# EAGLE library part MAX7221CWG (library MakBit)
MAX7219/MAX7221 - Serially Interfaced, 8-Digit LED Display Drivers 10MHz Serial Interface Individual LED Segment Control 150µA Low-Power Shutdown (Data Retained) Digital and Analog Brightness Control Drive Common-Cathode LED Display SPI, QSPI, MICROWIRE Serial Interface (MAX7221)
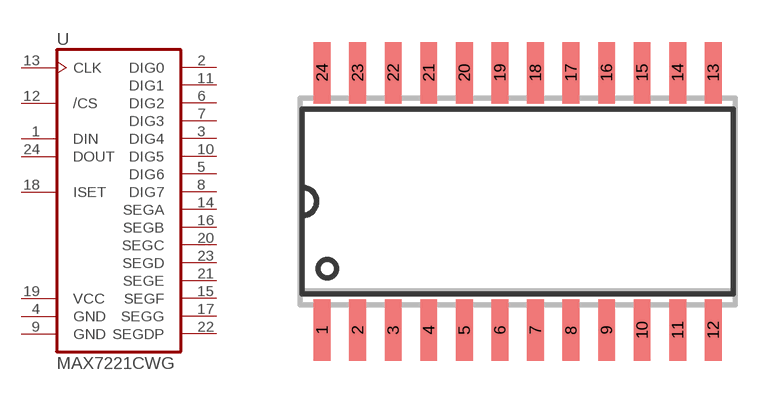
[diagram p8: symbol with the pads of SO24W; footprint SO24W]

Designator prefix U

## MAX7221CWG  [SO24W]
1  DIN  in
2  DIG0  oc
3  DIG4  oc
4  GND  pwr
5  DIG6  oc
6  DIG2  oc
7  DIG3  oc
8  DIG7  oc
9  GND  pwr
10  DIG5  oc
11  DIG1  oc
12  /CS  in
13  CLK  in
14  SEGA  out
15  SEGF  out
16  SEGB  out
17  SEGG  out
18  ISET  in
19  VCC  pwr
20  SEGC  out
21  SEGE  out
22  SEGDP  out
23  SEGD  out
24  DOUT  out

## Footprint SO24W (pad centres in mm)
SMALL OUTLINE INTEGRATED CIRCUIT wide body 7.5 mm/JEDEC MO-119AA
smd 0.6 x 2.2: 1 -6.985,-4.6; 2 -5.715,-4.6; 3 -4.445,-4.6; 4 -3.175,-4.6; 5 -1.905,-4.6; 6 -0.635,-4.6; 7 0.635,-4.6; 8 1.905,-4.6; 9 3.175,-4.6; 10 4.445,-4.6; 11 5.715,-4.6; 12 6.985,-4.6; 13 6.985,4.6; 14 5.715,4.6; 15 4.445,4.6; 16 3.175,4.6; 17 1.905,4.6; 18 0.635,4.6; 19 -0.635,4.6; 20 -1.905,4.6; 21 -3.175,4.6; 22 -4.445,4.6; 23 -5.715,4.6; 24 -6.985,4.6